# Altium integrated library Ref_altium lib_R0.IntLib: 381 symbols (part 1 of 4)
Pins are listed as number, name and electrical type; pins without a type are passive.

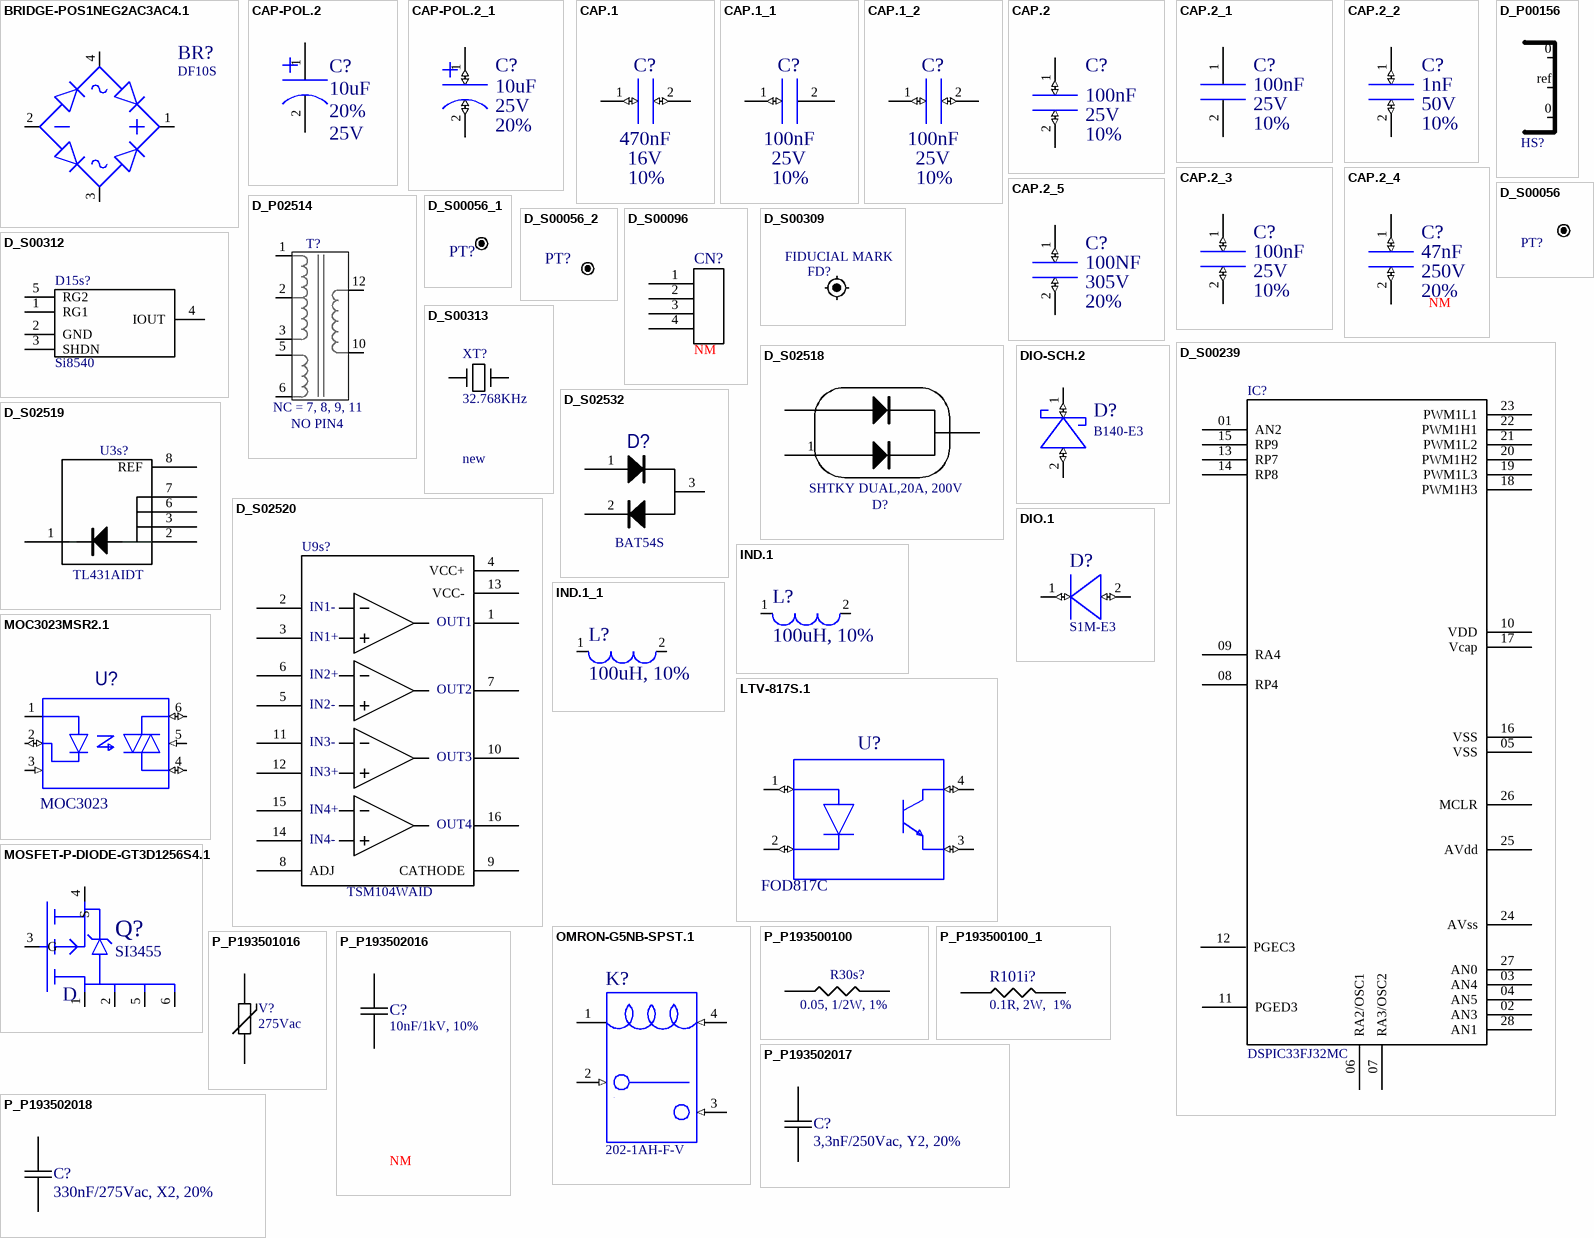
[diagram p0: symbols BRIDGE-POS1NEG2AC3AC4.1 to P_P193502018]

## BRIDGE-POS1NEG2AC3AC4.1
designator BR?, comment DEV  (value not drawn)
DF10S; MANUPARTNUM: DF10S*; LEVEL: STD; PKG_TYPE: BRIDG4_DINC_DFSQ; DXDB_LIBNAME: DIODES; ECAD#: 200-00007-00; STD_DESC: DIODE BR RCTF 1A 1000V 150C DFS; TEMP: -55C TO 150C; IF_IZ: 1A; POWER_RATING: 2.75W; VOLTAGE: 1KV; DEV_PKG: DF-S; CAM_PREFERRED: 2; EDC_P/N: W10331276; DES: BR1; DEVICE: DEV; PACKAGE: PACK; DATE: 03-May-10; SUPPLIER#2_NAME: FAIRCHILD SEMICOND; SUPPLIER#1_NAME: DIODES; STATUS: PERLIM; Value: DF10S; SUPPLIER#2_P/N: DF10S
footprint BRIDG4_DINC_DFSQ
footprint D-71_O_WHP
pins: 1 POS (io), 2 NEG (io), 3 AC2 (io), 4 AC1 (io)

## CAP-POL.2
designator C?, comment value 10uF  TOLERANCE: 20%  VOLTAGE: 25V  (hidden comment: DEV)
10uF; MANUPARTNUM: EEAGA1H100; LEVEL: STD; PKG_TYPE: CAPAETR2_250P630X700; CAM_PREFERRED: 2; DXDB_LIBNAME: CAPACITORS; ECAD#: 360-00042-00; AML_REVISION: AD; STD_DESC: CAP ELAL 10UF 20% 50V 105C RA2.5X7X7 ROHS; TEMP: -40C TO 105C; DEV_PKG: RA2.5x7x7; EDC_P/N: W10173999; DES: C58; DEVICE: DEV; DATE: 24-Jan-08; SUPPLIER#2_P/N: B41022A6106M000; SUPPLIER#2_NAME: EPCOS; SUPPLIER#1_NAME: PANASONIC; STATUS: ACTIVE
footprint CAPAETR2_250P630X700
footprint ELE_CAP_WHP
footprint CAP-ELETRO-B_R_V0
footprint CAP-ELETRO-B_R_V1
pins: 1 POS, 2 NEG

## CAP-POL.2_1
designator C?, comment value 10uF  TOLERANCE: 20%  VOLTAGE: 25V  (hidden comment: DEV)
10uF; MANUPARTNUM: EEAGA1H100; LEVEL: STD; PKG_TYPE: CAPAETR2_250P630X700; CAM_PREFERRED: 2; DXDB_LIBNAME: CAPACITORS; ECAD#: 360-00042-00; AML_REVISION: AD; STD_DESC: CAP ELAL 10UF 20% 50V 105C RA2.5X7X7 ROHS; TEMP: -40C TO 105C; DEV_PKG: RA2.5x7x7; EDC_P/N: W10173999; DES: C60; DEVICE: DEV; DATE: 24-Jan-08; SUPPLIER#2_P/N: B41022A6106M000; SUPPLIER#2_NAME: EPCOS; SUPPLIER#1_NAME: PANASONIC; STATUS: ACTIVE
footprint CAPAETR2_250P630X700
footprint ELE_CAP_WHP
footprint CAP-ELETRO-B_R_V0
footprint CAP-ELETRO-B_R_V1
pins: 1 POS (io), 2 NEG (io)

## CAP.1
designator C?, comment value 470nF  VOLTAGE: 16V  TOLERANCE: 10%  (hidden comment: DEV)
470nF; MANUPARTNUM: 0805YC474KAT2A; LEVEL: STD; PKG_TYPE: CAPC2012_IS0805N; DXDB_LIBNAME: CAPACITORS; ECAD#: 330-00003-00; STD_DESC: CAP CER  .47UF  16V 10% X7R  SM0805; TEMP: -55C TO 125C; DIELECT: X7R; DEV_PKG: SM0805; CAM_PREFERRED: 2; EDC_P/N: W10113748; DES: C62; DEVICE: DEV; DATE: 11-Dec-06; SUPPLIER#2_P/N: C0805C474K4RAC; SUPPLIER#2_NAME: KEMET ELEK; SUPPLIER#1_NAME: AVX; STATUS: ACTIVE
footprint CAPC2012_IS0805N
footprint 0805_R_V4
footprint 0805_O_V0
pins: 1 N1 (io), 2 N2 (io)

## CAP.1_1
designator C?, comment value 100nF  VOLTAGE: 25V  TOLERANCE: 10%  (hidden comment: DEV)
100nF; MANUPARTNUM: 06033C104KAT2A; LEVEL: STD; PKG_TYPE: CAPC1608_IS0603N; DXDB_LIBNAME: CAPACITORS; ECAD#: 330-00002-00; STD_DESC: CAP CER .1UF 25V 10% X7R SM0603; TEMP: -55C TO 125C; DIELECT: X7R; DEV_PKG: SM0603; CAM_PREFERRED: 1; EDC_P/N: W10141926; DES: C33; DEVICE: DEV; DATE: 25-Jun-07; SUPPLIER#2_P/N: C0603C104K3RAC; SUPPLIER#2_NAME: KEMET ELEK; SUPPLIER#1_NAME: AVX; STATUS: ACTIVE
footprint CAPC1608_IS0603N
footprint 0603_R_V4
footprint 0603_O_V1
pins: 1 N1 (io), 2 N2

## CAP.1_2
designator C?, comment value 100nF  VOLTAGE: 25V  TOLERANCE: 10%  (hidden comment: DEV)
100nF; MANUPARTNUM: 06033C104KAT2A; LEVEL: STD; PKG_TYPE: CAPC1608_IS0603N; DXDB_LIBNAME: CAPACITORS; ECAD#: 330-00002-00; STD_DESC: CAP CER .1UF 25V 10% X7R SM0603; TEMP: -55C TO 125C; DIELECT: X7R; DEV_PKG: SM0603; CAM_PREFERRED: 1; EDC_P/N: W10141926; DES: C25; DEVICE: DEV; DATE: 25-Jun-07; SUPPLIER#2_P/N: C0603C104K3RAC; SUPPLIER#2_NAME: KEMET ELEK; SUPPLIER#1_NAME: AVX; STATUS: ACTIVE
footprint CAPC1608_IS0603N
footprint 0603_R_V4
footprint 0603_O_V1
pins: 1 N1 (io), 2 N2 (io)

## CAP.2
designator C?, comment value 100nF  TOLERANCE: 10%  VOLTAGE: 25V  (hidden comment: DEV)
100nF; MANUPARTNUM: 06033C104KAT2A; LEVEL: STD; PKG_TYPE: CAPC1608_IS0603N; DXDB_LIBNAME: CAPACITORS; ECAD#: 330-00002-00; STD_DESC: CAP CER .1UF 25V 10% X7R SM0603; TEMP: -55C TO 125C; DIELECT: X7R; DEV_PKG: SM0603; CAM_PREFERRED: 1; EDC_P/N: W10141926; DES: C27; DEVICE: DEV; DATE: 25-Jun-07; SUPPLIER#2_P/N: C0603C104K3RAC; SUPPLIER#2_NAME: KEMET ELEK; SUPPLIER#1_NAME: AVX; STATUS: ACTIVE
footprint CAPC1608_IS0603N
footprint 0603_R_V4
footprint 0603_O_V1
pins: 1 N1 (io), 2 N2 (io)

## CAP.2_1
designator C?, comment value 100nF  TOLERANCE: 10%  VOLTAGE: 25V  (hidden comment: DEV)
100nF; MANUPARTNUM: 06033C104KAT2A; LEVEL: STD; PKG_TYPE: CAPC1608_IS0603N; DXDB_LIBNAME: CAPACITORS; ECAD#: 330-00002-00; STD_DESC: CAP CER .1UF 25V 10% X7R SM0603; TEMP: -55C TO 125C; DIELECT: X7R; DEV_PKG: SM0603; CAM_PREFERRED: 1; EDC_P/N: W10141926; DES: C24; DEVICE: DEV; DATE: 25-Jun-07; SUPPLIER#2_P/N: C0603C104K3RAC; SUPPLIER#2_NAME: KEMET ELEK; SUPPLIER#1_NAME: AVX; STATUS: ACTIVE
footprint CAPC1608_IS0603N
footprint 0603_R_V4
footprint 0603_O_V1
pins: 1 N1, 2 N2

## CAP.2_2
designator C?, comment value 1nF  TOLERANCE: 10%  VOLTAGE: 50V  (hidden comment: DEV)
1nF; MANUPARTNUM: 06035C102KAT2A; LEVEL: STD; PKG_TYPE: CAPC1608_IS0603N; DXDB_LIBNAME: CAPACITORS; ECAD#: 330-00002-00; STD_DESC: CAP CER  .001UF  50V 10% X7R SM0603; TEMP: -55C TO 125C; DIELECT: X7R; DEV_PKG: SM0603; CAM_PREFERRED: 1; EDC_P/N: W10113686; DES: C66; DEVICE: DEV; DATE: 28-Sep-06; SUPPLIER#2_P/N: GRM188R71H102KA01D; SUPPLIER#2_NAME: MURATA; SUPPLIER#1_NAME: AVX; STATUS: ACTIVE
footprint CAPC1608_IS0603N
footprint 0603_R_V4
footprint 0603_O_V1
footprint 0603_R_V3
pins: 1 N1 (io), 2 N2 (io)

## CAP.2_3
designator C?, comment value 100nF  TOLERANCE: 10%  VOLTAGE: 25V  (hidden comment: DEV)
100nF; MANUPARTNUM: 06033C104KAT2A; LEVEL: STD; PKG_TYPE: CAPC1608_IS0603N; DXDB_LIBNAME: CAPACITORS; ECAD#: 330-00002-00; STD_DESC: CAP CER .1UF 25V 10% X7R SM0603; TEMP: -55C TO 125C; DIELECT: X7R; DEV_PKG: SM0603; CAM_PREFERRED: 1; EDC_P/N: W10141926; DES: C54; DEVICE: DEV; DATE: 25-Jun-07; SUPPLIER#2_P/N: C0603C104K3RAC; SUPPLIER#2_NAME: KEMET ELEK; SUPPLIER#1_NAME: AVX; STATUS: ACTIVE
footprint CAPC1608_IS0603N
footprint 0603_R_V4
footprint 0603_R_V3
pins: 1 N1 (io), 2 N2 (io)

## CAP.2_4
designator C?, comment value 47nF  TOLERANCE: 20%  VOLTAGE: 250V  OBS: NM  (hidden comment: DEV)
47nF; MANUPARTNUM: BN074G0473M; LEVEL: STD; PKG_TYPE: CAPT2_750P1030X430B_PD60; CAM_PREFERRED: 3; DXDB_LIBNAME: CAPACITORS; ECAD#: 350-00016-00; STD_DESC: CAP FILM .047UF 250V 20%  PTH; DIELECT: POLYE; DEV_PKG: RA7.5x10x4x9; EDC_P/N: W10155047; DES: C65; DEVICE: DEV; DATE: 23-Aug-07; SUPPLIER#2_P/N: MKT1818-347255; SUPPLIER#2_NAME: VISHAY ROEDERSTEIN; SUPPLIER#1_NAME: AVX; STATUS: ACTIVE
footprint CAPT2_750P1030X430B_PD60
footprint CAP_POL_V0_WHP
pins: 1 N1 (io), 2 N2 (io)

## CAP.2_5
designator C?, comment value 100NF  TOLERANCE: 20%  VOLTAGE: 305V  (hidden comment: DEV)
100NF; MANUPARTNUM: B32921C3104M000; LEVEL: STD; PKG_TYPE: CAPT2_1000P1300X600B_PD60; DXDB_LIBNAME: CAPACITORS; ECAD#: 350-00027-00; STD_DESC: CAP FILM 0.1UF 305VAC 20% X2 RA10; TEMP: -40C TO 110C; DIELECT: POLYP; DEV_PKG: RA10X13X6X12; CAM_PREFERRED: 1; EDC_P/N: W10331227; DES: C64; DEVICE: DEV; DATE: 12-MAY-10; SUPPLIER#2_P/N: BFC233920104; SUPPLIER#2_NAME: VISHAY; SUPPLIER#1_NAME: EPCOS; STATUS: PRELIM
footprint CAPT2_1000P1300X600B_PD60
footprint CAP_POL_V1_WHP
pins: 1 N1 (io), 2 N2 (io)

## D_P00156
designator HS?
HEAT SINK - TO; OBS: HEAT SINK
footprint HEAT_SINK_V0 (Footprint not found)
pins: 0, 0, ref

## D_P02514
designator T?  (value not drawn)
DES: T1
footprint TRF_SMSPS_WHP (R36, R37, R38)
pins: 1, 2, 3, 5, 6, 10, 12
text: NC = 7, 8, 9, 11; NO PIN4

## D_S00056
designator PT?  (value not drawn)
Text Field1: PTICT; Text Field2: EXO; Text Field3: PT
footprint PTICT_V0
pins: 1

## D_S00056_1
designator PT?, comment D_S00056  (value not drawn)
PTICT: *; EXO: *; PT: *
footprint PTICT_V0
pins: 1 (io)

## D_S00056_2
designator PT?, comment D_S00056  (value not drawn)
Text Field1: PTICT; Text Field2: EXO; Text Field3: PT
footprint PTICT_V0
pins: 1

## D_S00096
designator CN?  OBS: NM  (hidden comment: D_S00096)
D_S00095; Text Field1: SH CONNECTOR, SMT TYPE; Text Field2: SM04B-SRSS-TB@PKG T&R 13" 1500PÇS; Text Field3: JST; SM04B-SRSS-TB: *
footprint SM04B_R_V0
footprint B04B-XASS-1-A-T
pins: 1, 2, 3, 4

## D_S00239
designator IC?  value DSPIC33FJ32MC  (hidden comment: D_S00239)
DSPIC33FJ32MC; Text Field1: DSP MICROCHIP FLASH - VCC3 X12; EECON CODE: new
footprint QFN-28_V3
pins: 01 AN2, 02 AN3, 03 AN4, 04 AN5, 05 VSS, 06 RA2/OSC1, 07 RA3/OSC2, 08 RP4, 09 RA4, 10 VDD, 11 PGED3, 12 PGEC3, 13 RP7, 14 RP8, 15 RP9, 16 VSS, 17 Vcap, 18 PWM1H3, 19 PWM1L3, 20 PWM1H2, 21 PWM1L2, 22 PWM1H1, 23 PWM1L1, 24 AVss, 25 AVdd, 26 MCLR, 27 AN0, 28 AN1

## D_S00309
designator FD?, comment FIDUCIAL MARK
EECON CODE: none; Value: FIDUCIAL MARK
footprint FDC_V2
footprint FDC_V0
footprint FDC_V1
pins: 1

## D_S00312
designator D15s?  value Si8540  (hidden comment: D_S00312)
Si8540; COMPONENT: HIGH-SIDE CURRENT SENSE AMPLIFIER; Text Field2: Silicon Labs; EECON CODE: new; DES: D15s; Text Field1: Si8540
footprint SOT-23-5_R_V1
pins: 1 RG1, 2 GND, 3 SHDN, 4 IOUT, 5 RG2

## D_S00313
designator XT?, comment EECON CODE: new  (hidden comment: 32.768KHz)
Text Field2: KIOCERA; COMPONENT: 32.768KHz Crystal; Text Field 1: ST3215SB32768H5HPWAA; Value: 32.768KHz
footprint XTAL_DsPIC
pins: 1, 2

## D_S02518
designator D?  value SHTKY DUAL,20A, 200V  (hidden comment: D_S02518)
SHTKY DUAL,20A, 200V; DES: D7
pins: 1, 2, 3

## D_S02519
designator U3s?  value TL431AIDT  (hidden comment: D_S02519)
TL431AIDT; DES: U3s
footprint SO-8_R_WHP
pins: 1, 1, 2, 2, 3, 6, 7, 8 REF

## D_S02520
designator U9s?  (value not drawn)
pins: 1, 1 2, 2, 3, 3 2, 4 VCC+, 5, 5 2, 6, 6 2, 7, 7 2, 8 ADJ, 9 CATHODE, 10, 10 2, 11, 11 2, 12, 12 2, 13 VCC-, 14, 14 2, 15, 15 2, 16, 16 2, IN1-
text: OUT1; IN1+; IN2+; OUT2; IN2-; IN3-; OUT3; IN3+; IN4+; OUT4; IN4-; TSM104WAID

## D_S02532
designator D?  value BAT54S  (hidden comment: D_S02532)
BAT54S; DES: D20
footprint SOT-23_R_V2_WHP
pins: 1, 2, 3

## DIO-SCH.2
designator D?, comment value B140-E3  (hidden comment: DEV)
B140-E3; MANUPARTNUM: MBRA140T3G; LEVEL: STD; PKG_TYPE: DIOM4326_SMA_D0214ACN; DXDB_LIBNAME: DIODES; ECAD#: 200-00013-00; STD_DESC: DIODE SHTKY SW 1A 40V 150C SMA; TEMP: -55C TO 125C; IF_IZ: 1A; POWER_RATING: 1W; VOLTAGE: 40V; DEV_PKG: SMA; CAM_PREFERRED: 2; EDC_P/N: W10173965; DES: D15; DEVICE: DEV; PACKAGE: PACK; DATE: 03-Jan-08; SUPPLIER#2_P/N: B140-E3/5AT; SUPPLIER#2_NAME: VISHAY; SUPPLIER#1_NAME: ON SEMICOND; STATUS: ACTIVE
footprint DIOM4326_SMA_D0214ACN
footprint SMA_R_V3
pins: 1 C (io), 2 A (io)

## DIO.1
designator D?, comment value S1M-E3  (hidden comment: DEV)
S1M-E3; MANUPARTNUM: MRA4007T3G; LEVEL: STD; PKG_TYPE: DIOM4326_SMA_D0214ACN; TEMP: -55C TO 150C; POWER_RATING: 1.7W; CAM_PREFERRED: 1; DXDB_LIBNAME: DIODES; ECAD#: 200-00005-00; AML_REVISION: T; STD_DESC: DIODE RCTF  1A 1000V SMA ROHS; IF_IZ: 1A; VOLTAGE: 1KV; DEV_PKG: SMA; EDC_P/N: W10120708; DES: D5; PACKAGE: PACK; DEVICE: DEV; DATE: 13-Dec-06; SUPPLIER#2_P/N: S1M-E3; SUPPLIER#2_NAME: VISHAY; SUPPLIER#1_NAME: ON SEMI; STATUS: ACTIVE
footprint DIOM4326_SMA_D0214ACN
footprint SMA_R_V3
pins: 1 C (io), 2 A (io)

## IND.1
designator L?, comment value 100uH, 10%  (hidden comment: DEV)
100uH, 10%; MANUPARTNUM: MLF2012C101K; LEVEL: STD; PKG_TYPE: INDC2012_IS0805N; CAM_PREFERRED: 3; DXDB_LIBNAME: INDUCTORS; ECAD#: 380-00012-00; AML_REVISION: V; STD_DESC: INDUCT RFCHK 100 UH 10% 3.1 OHM 2MA SM0805 ROHS; RDC_OHMS: 3.1; AMPS: 2mA; DEV_PKG: SM0805; EDC_P/N: W10141876; DES: L10; PACKAGE: PACK; DEVICE: DEV; DATE: 15-May-07; SUPPLIER#1_NAME: TDK; STATUS: ACTIVE; TOLERANCE: 10%
footprint INDC2012_IS0805N
footprint 0805_R_V4
pins: 1 N1, 2 N2 (io)

## IND.1_1
designator L?, comment value 100uH, 10%  (hidden comment: DEV)
100uH, 10%; MANUPARTNUM: MLF2012C101K; LEVEL: STD; PKG_TYPE: INDC2012_IS0805N; CAM_PREFERRED: 3; DXDB_LIBNAME: INDUCTORS; ECAD#: 380-00012-00; AML_REVISION: V; STD_DESC: INDUCT RFCHK 100 UH 10% 3.1 OHM 2MA SM0805 ROHS; RDC_OHMS: 3.1; AMPS: 2mA; DEV_PKG: SM0805; EDC_P/N: W10141876; DES: L1; PACKAGE: PACK; DEVICE: DEV; DATE: 15-May-07; SUPPLIER#1_NAME: TDK; STATUS: ACTIVE; TOLERANCE: 10%
footprint INDC2012_IS0805N
footprint 0805_R_V4
pins: 1 N1 (io), 2 N2 (io)

## LTV-817S.1
designator U?, comment value FOD817C  (hidden comment: DEV)
FOD817C; MANUPARTNUM: FOD 817CSD; LEVEL: STD; PKG_TYPE: SOP254P1016_4_D460Q; DXDB_LIBNAME: OPTO-ISOLATORS; ECAD#: 540-00004-00; STD_DESC: IC OPTO TRANSISTOR 200 TO 400% CTR 5.0MA; TEMP: -55C TO 110C; VCE_CTR: 5V; IC_CTR: 5mA; CTR: 200% TO 400%; DEV_PKG: SDIP4; CAM_PREFERRED: 2; EDC_P/N: W10346090; DES: U11; DEVICE: DEV; PACKAGE: PACK; DATE: 03-Aug-10; SUPPLIER#2_P/N: TLP-781 (BLL-TP6); SUPPLIER#2_NAME: TOSHIBA; SUPPLIER#1_NAME: FAIRCHILD SEMICOND; STATUS: PRELIM
footprint SOP254P1016_4_D460Q
footprint OPTO_R_V1_WHP
pins: 1 ANODE (io), 2 CATHODE (io), 3 EMIT (io), 4 COLL (io)

## MOC3023MSR2.1
designator U?, comment value MOC3023  (hidden comment: DEV)
MOC3023; MANUPARTNUM: MOC3023SR2M; LEVEL: STD; PKG_TYPE: SOP254P917_6_D851Q; CAM_PREFERRED: 1; DXDB_LIBNAME: OPTO-ISOLATORS; ECAD#: 540-00005-00; STD_DESC: IC OPTO TRIAC DC/IN 400V/5MA SDIP6; VCE_CTR: 400V; IC_CTR: 5mA; DEV_PKG: SDIP6; EDC_P/N: W10120697; DES: U19; DEVICE: DEV; PACKAGE: PACK; DATE: 17-Jan-07; SUPPLIER#1_NAME: FAIRCHILD SEMICOND; STATUS: ACTIVE
footprint SOP254P917_6_D851Q
footprint SMD-6_R_WHP
pins: 1 ANODE, 2 CATHODE (io), 3 NC1 (in), 4 MAINTERM1 (io), 5 NC2 (in), 6 MAINTERM2 (io)

## MOSFET-P-DIODE-GT3D1256S4.1
designator Q?, comment value SI3455  (hidden comment: DEV)
SI3455; MANUPARTNUM: NTGS3455T1G; LEVEL: STD; PKG_TYPE: SOT95P280_6_D290N; TEMP: -55C TO 150C; CAM_PREFERRED: 2; DXDB_LIBNAME: TRANSISTORS; ECAD#: 220-00038-00; AML_REVISION: Y; STD_DESC: TRANSISTOR PFET 4A 30V 2W TSOP6; POWER_RATING: 2W; VCE: 30V; IC_AMPS: 3.5A; DEV_PKG: TSOP6; EDC_P/N: W10165218; DES: Q19; DEVICE: DEV; DATE: 30-Nov-07; SUPPLIER#1_NAME: ON SEMICOND; STATUS: ACTIVE
footprint SOT95P280_6_D290N
footprint SOT-23-6_R_WHP
pins: 1 D1 (io), 2 D2 (io), 3 G (io), 4 S (io), 5 D3 (io), 6 D4 (io)
text: D

## OMRON-G5NB-SPST.1
designator K?, comment value 202-1AH-F-V  (hidden comment: DEV)
202-1AH-F-V; MANUPARTNUM: G5NB-1A4 12VDC; LEVEL: STD; PKG_TYPE: RLYT4_OMRON_G5NB; CAM_PREFERRED: 2; DXDB_LIBNAME: RELAYS; ECAD#: 400-00002-00; STD_DESC: RELAY ELECT MAG 3A SPST-NO 12V RADIAL; TEMP: -40C TO 85C; FORM_CONTACTS: 1P/1T, 1A; I_CONTACTS: 3A; COIL_RES: 720; VOLTAGE: 12V; DEV_PKG: RADIAL; EDC_P/N: W10304000; DES: K1; PACKAGE: PACK; DEVICE: DEV; DATE: 03-Nov-09; SUPPLIER#1_NAME: OMRON; STATUS: PRELIM
footprint RLYT4_OMRON_G5NB
footprint RELAY_202_1AC-F-S_WHP
footprint RELAY_202_1AC-F-S_WHP_V1
pins: 1 C1, 2 COM (in), 3 NO (in), 4 C2 (in)

## P_P193500100
designator R30s?  value 0.05, 1/2W, 1%  (hidden comment: P_P193500100)
0.05, 1/2W, 1%; COMPONENT: CURR sense resistor 0.05R 1% 75ppm 1/2W; Text Field2: WSLP0805R0500FEA; Text Field3: VISHAY; EECON CODE: new; DES: R30s
footprint 0805_R_V0
footprint 0805_SH_R_V1
pins: 1, 2

## P_P193500100_1
designator R101i?, comment value 0.1R, 2W,  1%  (hidden comment: P_P193500100)
0.1R, 2W,  1%; Text Field2: 2306 327 01007 @ PAC02 TAPE IN BOX 500PÇS; Text Field3: PHOENIX DO BRASIL; COMPONENT: CEMENTED WIREWOUND RES. PACO2, 0.1R, 2W,  1%; EECON CODE: 193500100
footprint PAC02_V0
footprint AC03_V0
footprint LVR-3_V0
pins: 1, 2

## P_P193501016
designator V?  value 275Vac  (hidden comment: P_P193501016)
275Vac; COMPONENT: VARISTOR, Q14K275; Text Field1: B72214Q0271K101; Text Field2: EPCOS; EECON CODE: 0193501016; DES: V1
footprint VAR_S20K275_V0
pins: 1, 2

## P_P193502016
designator C?  value 10nF/1kV, 10%  OBS: NM  (hidden comment: P_P193502016)
10nF/1kV, 10%; Text Field1: 2222 336 20103 @ Loose in Box 1000PÇS % 2222 336 26103 @ Loose in Box 1000PÇS; Text Field2: BC COMPONENTS % BC COMPONENTS; Text Field3: 2222 336 23103 @ REEL 1100PÇS; Text Field4: BC COMPONENTS; Text Field5: B81130-C1003-M735; Text Field6: EPCOS; COMPONENT: POLYPROPYLENE CAP., 10nF/275AC,  X2 TYPE; EECON CODE: 193502016
footprint CAP-EMC-TAM-A_V0
footprint 2010_R_V0
pins: 1, 2

## P_P193502017
designator C?  value 3,3nF/250Vac, Y2, 20%  (hidden comment: P_P193502017)
3,3nF/250Vac, Y2, 20%; Text Field1: POLYPROPYLENE CAP., 4.7nF/250AC, Y2 TYPE; Text Field2: 2222 336 60472 @ Loose in Box 750PÇS % 2222 336 66472 @ Loose in Box 750PÇS; Text Field3: BC COMPONENTS; Text Field4: B81122-C1472-M735; Text Field5: EPCOS; Text Field6: 2222 336 63472 @ REEL 900PÇS; DES: C003; Text Field7: BC COMPONENTS
footprint CAP-EMC-TAM-B_V0
pins: 1, 2

## P_P193502018
designator C?  value 330nF/275Vac, X2, 20%  (hidden comment: P_P193502018)
330nF/275Vac, X2, 20%; Text Field1: POLYPROPYLENE CAP., 330nF/275AC,  X2 TYPE; Text Field2: B81130-C1334-M735; Text Field3: EPCOS; Text Field4: 2222 336 20334 @ LOOSE IN BOX 200PÇS % 2222 336 26334 @ LOOSE IN BOX 500PÇS; Text Field5: BC COMPONENTS % BC COMPONENTS; Text Field6: 2222 336 23334 @ REEL 450 PÇS; Text Field7: BC COMPONENTS; DES: C001
footprint CAP-EMC-TAM-D_V0
footprint CAPPOL4_V0
pins: 1, 2

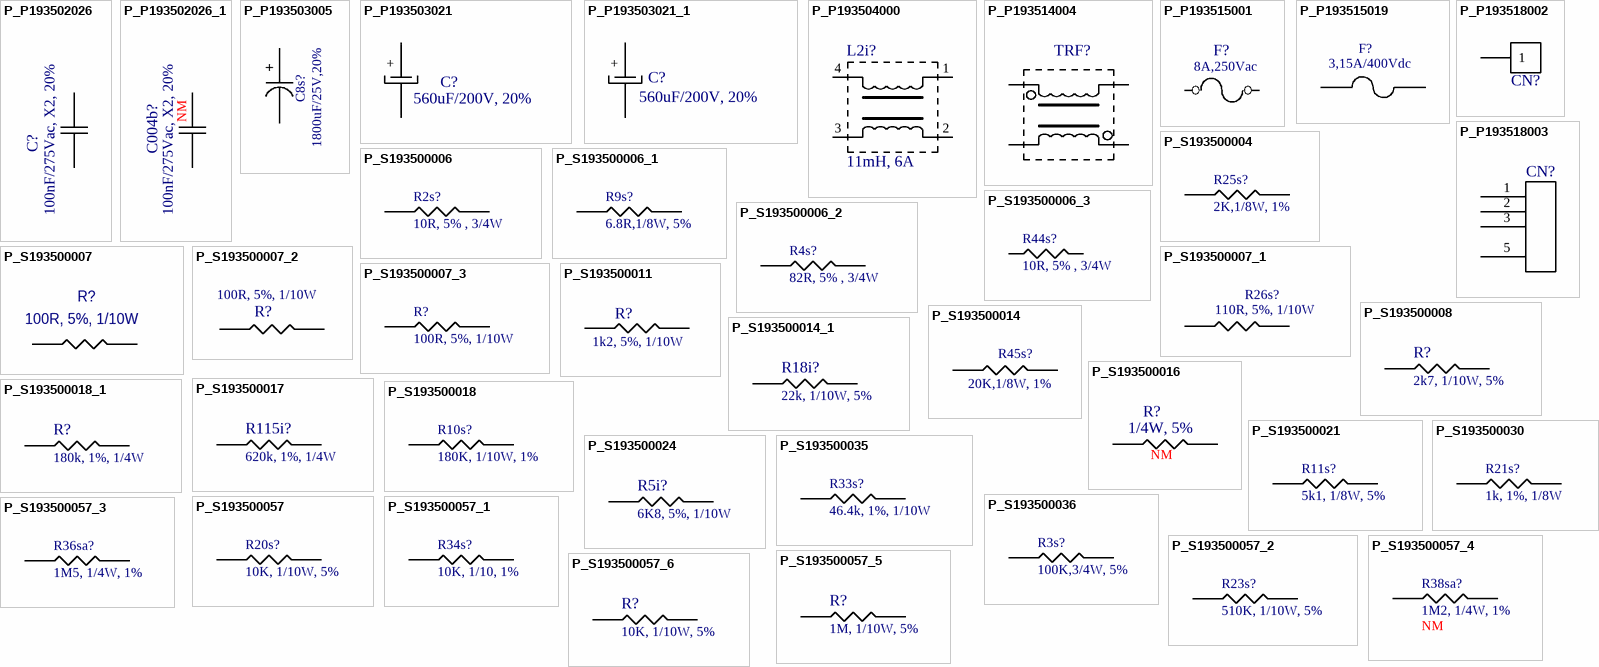
[diagram p1: symbols P_P193502026 to P_S193500057_6]

## P_P193502026
designator C?  value 100nF/275Vac, X2, 20%  (hidden comment: P_P193502026)
100nF/275Vac, X2, 20%; Text Field1: POLYPROPYLENE CAP., 100nF/275AC,  X2 TYPE; Text Field2: 2222 336 20104 @ LOOSE IN BOX 1000PÇS; Text Field3: BC COMPONENTS; Text Field4: 2222 336 26104 @ LOOSE IN BOX 500PÇS; Text Field6: 2222 336 23104 @ REEL 800 PÇS; DES: C004; Text Field5: BC COMPONENTS; Text Field7: BC COMPONENTS
footprint CAP-EMC-TAM-C_V0
pins: 1, 2

## P_P193502026_1
designator C004b?, comment value 100nF/275Vac, X2, 20%  OBS: NM  (hidden comment: P_P193502026)
100nF/275Vac, X2, 20%; Text Field1: POLYPROPYLENE CAP., 100nF/275AC,  X2 TYPE; Text Field2: 2222 336 20104 @ LOOSE IN BOX 1000PÇS; Text Field3: BC COMPONENTS; Text Field4: 2222 336 26104 @ LOOSE IN BOX 500PÇS; Text Field6: 2222 336 23104 @ REEL 800 PÇS; DES: C004b; Text Field5: BC COMPONENTS; Text Field7: BC COMPONENTS
footprint CAP-EMC-TAM-D_V1
pins: 1, 2

## P_P193503005
designator C8s?  value 1800uF/25V,20%  (hidden comment: P_P193503005)
1800uF/25V,20%; COMPONENT: ELET. CAP., 1800uF/25V; Text Field1: UHD1E182MHD6; Text Field2: NICHICON; EECON CODE: new; DES: C8s
footprint CAP-ELETR-TAM-A_V0
footprint CAP-ELETR-TAM-A_V1
footprint CAP-ELETR-16X27_V0
footprint CAP-ELETR-16X27_WHP
pins: 1, 2
text: +

## P_P193503021
designator C?  value 560uF/200V, 20%  (hidden comment: P_P193503021)
560uF/200V, 20%; Text Field1: ELEC CAP 390uF/200V EE 3000H 105C; Text Field2: EETEE2D391H @; Text Field3: PANASONIC; Text Field4: EETEE2D391HJ; DES: C102; Text Field5: PANASONIC
footprint CAP-ELETR-TAM-B_22_WHP
footprint CAP-ELETR-TAM-B_25_WHP
pins: 1, 2
text: +

## P_P193503021_1
designator C?, comment value 560uF/200V, 20%  (hidden comment: P_P193503021)
560uF/200V, 20%; Text Field1: ELEC CAP 390uF/200V EE 3000H 105C; Text Field2: EETEE2D391H @; Text Field3: PANASONIC; Text Field4: EETEE2D391HJ; DES: C101; Text Field5: PANASONIC
footprint CAP-ELETR-TAM-B_22_WHP
footprint CAP-ELETR-TAM-B_30_WHP
footprint CAP-ELETR-TAM-B_25_WHP
pins: 1, 2
text: +

## P_P193504000
designator L2i?  value 11mH, 6A  (hidden comment: P_P193504000)
11mH, 6A; Text Field1: CHOKE INDUCTOR, 2A/5.6mH,+/-30%, UL,VDE APROVED; Text Field2: B82723-A2202-N1; Text Field3: EPCOS; DES: L2i
footprint CHOKE-TAM-A_V0
footprint CHOKE-TAM-B_V0
footprint CHOKE-TAM-C_V01
footprint CHOKE-TAM-C_V02
pins: 1, 2, 3, 4

## P_P193514004
designator TRF?  (value not drawn)
820uH/100uH TDK; Text Field1: SRW10ES-U01V002; COMPONENT: SMPS TRANSFORMER 820uH/100uH; EECON CODE: 0193514004; Text Field2: TDK; Value: 820uH/100uH TDK
footprint TRAFO_TDK
footprint TRAFO TDK
pins: 1, 4, 5, 8

## P_P193515001
designator F?  value 8A,250Vac  (hidden comment: P_P193515001)
8A,250Vac; Text Field1: TIME-LAG FUSE, MXT250 MODEL, 4A/250V, VDE/UL; Text Field2: 0034.6921.BF; Text Field3: SCHURTER; DES: F001; 31370027-5: *; FUSIVEL TIME-LAG 4A/250V (MXT250): *; FUSEBEL: *; DIL: *; F: *
footprint FUSE_SPT_R_V2 (Correção Haier 331)
pins: 1, 2

## P_P193515019
designator F?, comment value 3,15A/400Vdc  (hidden comment: Comment)
3,15A/400Vdc; Text Field2: SCHURTER; EECON CODE: 0193515019; COMPONENT: FUSE, SP5x20 PIGTAIL MODEL, 8A/250V FAST ACT; Text Field1: 0001.1013.TR @ T&R 1000 pçs
footprint FUSE_R_V0
footprint FUSE_O_V0
footprint FUSE_SP_5X20_PGT_V0
footprint FUSE_SP_5x20_PGT_V1
footprint FUSE_SP_5x20_PGT_V2
pins: 1, 2

## P_P193518002
designator CN?  (value not drawn)
Text Field1: HEADER CONNECTOR, SLV MODEL, 1 WAY; Text Field2: RTB-1.5-1F @ BOX 1000PÇS; Text Field3: JST; DES: CN03
footprint CON-SLV_V0
footprint CON-BH1P-VH-1_V0
pins: 1

## P_P193518003
designator CN?  (value not drawn)
Text Field1: HEADER CONNECTOR, VH MODEL, 5 WAYS W/4 WAY; Text Field2: B4PS-VH @ BOX 500PÇS; Text Field3: JST; Text Field4: B4P5-VH @ BOX 500PÇS; DES: CN07; Text Field5: JST
footprint CON-B4P5-VH_V0
pins: 1, 2, 3, 5

## P_S193500004
designator R25s?  (value not drawn)
2K2R, 1/8W, 5%; COMPONENT: RES., 0805 SIZE, 2K2R, 1/8W, 5%; Text Field1: 2322 730 81222L @ REEL 20000PÇS; Text Field2: PHYCOMP; Text Field3: 2322 730 71222L @ REEL 10000PÇS; Text Field5: 2322 730 61222L @ REEL 5000PÇS; EECON CODE: 0193500004; DES: R25s; Text Field4: PHYCOMP; Text Field6: PHYCOMP; Value: 2K2R, 1/8W, 5%
footprint 0805_R_V0
footprint 0805_O_V0
footprint 0805_R_V1
footprint 0805_O_V1
footprint 0805_R_V4
pins: 1, 2
text: 2K,1/8W, 1%

## P_S193500006
designator R2s?  value 10R, 5% , 3/4W  (hidden comment: P_S193500006)
10R, 5% , 3/4W; Text Field1: SR2010JK-0710RL; Text Field2: Yageo; EECON CODE: new; DES: R2s
footprint 2010_R_V1
footprint 2010_R_V0
footprint 2010_O_V1
pins: 1, 2

## P_S193500006_1
designator R9s?, comment P_S193500006  (value not drawn)
10R, 5% , 1/10 W; Text Field1: 2322 702 81109L @ REEL 20000PÇS; Text Field2: PHYCOMP; Text Field3: 2322 702 70109L @ REEL 10000PÇS; Text Field5: 2322 702 60109L @ REEL 5000PÇS; Text Field6: PHYCOMP/YAGEO; COMPONENT: RES., 0603 SIZE,10R, 5% , 1/10 W; EECON CODE: 0193500006; DES: R9s; Text Field4: PHYCOMP; Value: 10R, 5% , 1/10 W
footprint 0603_O_V0
footprint 0603_R_V0
footprint 0805_R_V4
footprint 0805_O_V1
pins: 1, 2
text: 6.8R,1/8W, 5%

## P_S193500006_2
designator R4s?, comment P_S193500006  (value not drawn)
10R, 5% , 1/10 W; Text Field1: 2322 702 81109L @ REEL 20000PÇS; Text Field2: PHYCOMP; Text Field3: 2322 702 70109L @ REEL 10000PÇS; Text Field5: 2322 702 60109L @ REEL 5000PÇS; Text Field6: PHYCOMP/YAGEO; COMPONENT: RES., 0603 SIZE,10R, 5% , 1/10 W; EECON CODE: 0193500006; DES: R4s; Text Field4: PHYCOMP; Value: 10R, 5% , 1/10 W
footprint 0603_O_V0
footprint 0603_R_V0
footprint 2010_O_VS0
footprint 1210_R_WHP
footprint 2010_O_VS0
footprint 2010_R_V1
footprint 2010_O_V1
pins: 1, 2
text: 82R, 5% , 3/4W

## P_S193500006_3
designator R44s?, comment P_S193500006  (value not drawn)
10R, 5% , 1/10 W; Text Field1: 2322 702 81109L @ REEL 20000PÇS; Text Field2: PHYCOMP; Text Field3: 2322 702 70109L @ REEL 10000PÇS; Text Field5: 2322 702 60109L @ REEL 5000PÇS; Text Field6: PHYCOMP/YAGEO; COMPONENT: RES., 0603 SIZE,10R, 5% , 1/10 W; EECON CODE: 0193500006; DES: R44s; Text Field4: PHYCOMP; Value: 10R, 5% , 1/10 W
footprint 0603_O_V0
footprint 0603_R_V0
footprint 2010_O_VS0
footprint 2010_R_V1
footprint 2010_O_V1
pins: 1, 2
text: 10R, 5% , 3/4W

## P_S193500007
designator R?  value 100R, 5%, 1/10W  (hidden comment: P_S193500007)
100R, 5%, 1/10W; COMPONENT: RES., 0603 SIZE, 100R, 5%, 1/10W; Text Field1: 2322 702 60101L @ REEL 7" 5000PÇS; Text Field2: PHYCOMP; Text Field3: 2322 702 70101L @ REEL 13" 10000PÇS; Text Field5: 2322 702 81101L@ REEL 13" 20000PÇS; EECON CODE: 0193500007; Text Field4: PHYCOMP; Text Field6: PHYCOMP
footprint 0603_R_V0
footprint 0603_O_V0
footprint 0603_R_V3
pins: 1, 2
1 alternate drawing of the same symbol

## P_S193500007_1
designator R26s?, comment value 110R, 5%, 1/10W  (hidden comment: P_S193500007)
110R, 5%, 1/10W; COMPONENT: RES., 0603 SIZE, 100R, 5%, 1/10W; Text Field1: 2322 702 60101L @ REEL 7" 5000PÇS; Text Field2: PHYCOMP; Text Field3: 2322 702 70101L @ REEL 13" 10000PÇS; Text Field5: 2322 702 81101L@ REEL 13" 20000PÇS; EECON CODE: 0193500007; DES: R26s; Text Field4: PHYCOMP; Text Field6: PHYCOMP
footprint 0603_R_V0
footprint 0603_O_V0
footprint 0805_R_V4
footprint 0805_O_V1
footprint 0603_O_V1
pins: 1, 2
1 alternate drawing of the same symbol

## P_S193500007_2
designator R?, comment value 100R, 5%, 1/10W  (hidden comment: P_S193500007)
100R, 5%, 1/10W; Text Field1: 2322 702 60101L @ REEL 7" 5000PÇS; Text Field2: PHYCOMP; Text Field3: 2322 702 70101L @ REEL 13" 10000PÇS; Text Field5: 2322 702 81101L@ REEL 13" 20000PÇS; COMPONENT: RES., 0603 SIZE, 100R, 5%, 1/10W; EECON CODE: 0193500007; Text Field4: PHYCOMP; Text Field6: PHYCOMP
footprint 0603_R_V0
footprint 0603_O_V0
footprint 0603_O_V1
pins: 1, 2

## P_S193500007_3
designator R?, comment value 100R, 5%, 1/10W  (hidden comment: P_S193500007)
100R, 5%, 1/10W; COMPONENT: RES., 0603 SIZE, 100R, 5%, 1/10W; Text Field1: 2322 702 60101L @ REEL 7" 5000PÇS; Text Field2: PHYCOMP; Text Field3: 2322 702 70101L @ REEL 13" 10000PÇS; Text Field5: 2322 702 81101L@ REEL 13" 20000PÇS; EECON CODE: 0193500007; Text Field4: PHYCOMP; Text Field6: PHYCOMP
footprint 0603_R_V0
footprint 0603_O_V0
footprint 0603_R_V3
footprint 0603_O_V1
pins: 1, 2
1 alternate drawing of the same symbol

## P_S193500008
designator R?  value 2k7, 1/10W, 5%  (hidden comment: P_S193500008)
2k7, 1/10W, 5%; Text Field1: 2322 702 81272L @ REEL 13" 20000PÇS; Text Field2: PHYCOMP; Text Field3: 2322 702 70272L @ REEL 10" 10000PÇS; Text Field5: 2322 702 60272L @ REEL 7" 5000PÇS; COMPONENT: RES., 0603 SIZE, 2K7R, 5%, 1/10W; EECON CODE: 0193500008; Text Field4: PHYCOMP; Text Field6: PHYCOMP
footprint 0603_R_V0
footprint 0603_O_V0
footprint 0603_R_VS0
footprint 0603_R_V3
pins: 1, 2

## P_S193500011
designator R?  value 1k2, 5%, 1/10W  (hidden comment: P_S193500011)
1k2, 5%, 1/10W; Text Field1: 2322 702 81122L@ REEL 13" 20000PÇS; Text Field2: PHYCOMP; Text Field3: 2322 702 70122L@ REEL 10" 10000PÇS; Text Field5: 2322 702 60122L@ REEL 7" 5000PÇS; COMPONENT: RES.,1k2R, 5%, 1/10W; EECON CODE: 0193500011; Text Field4: PHYCOMP; Text Field6: PHYCOMP
footprint 0603_R_V0
footprint 0603_O_V0
footprint 0603_O_V1
pins: 1, 2

## P_S193500014
designator R45s?  (value not drawn)
22k, 5%, 1/10W; COMPONENT: RES.,0603 SIZE, 22k , 5%, 1/10W; Text Field5: 2322 702 81223L@ PKG T&R 7" 20000PÇS; Text Field2: PHYCOMP; Text Field3: 2322 702 70223L@ PKG T&R 13" 10000PÇS; Text Field7: MCR03 EZH J 223 @ PKG T&R 7" 5000PÇS; Text Field8: ROHM; EECON CODE: 0193500014; Texet Field1: 2322 702 60223L@ PKG T&R 5000PÇS; Text Field9: MCR03 EZP J 223 @ PKG T&R 7" 5000PÇS; DES: R45s; Text Field6: PHYCOMP; Text Field4: PHYCOMP; Text Field10: ROHM; Value: 22k, 5%, 1/10W
footprint 0603_R_V0
footprint 0603_O_V0
footprint 0805_R_V4
footprint 0805_O_V1
pins: 1, 2
1 alternate drawing of the same symbol
text: 20K,1/8W, 1%

## P_S193500014_1
designator R18i?, comment value 22k, 1/10W, 5%  (hidden comment: P_S193500014)
22k, 1/10W, 5%; Text Field2: PHYCOMP; Text Field3: 2322 702 70223L@ PKG T&R 13" 10000PÇS; Text Field5: 2322 702 81223L@ PKG T&R 7" 20000PÇS; Text Field7: MCR03 EZH J 223 @ PKG T&R 7" 5000PÇS; COMPONENT: RES.,0603 SIZE, 22k , 5%, 1/10W; EECON CODE: 0193500014; Texet Field1: 2322 702 60223L@ PKG T&R 5000PÇS; Text Field8: ROHM; Text Field9: MCR03 EZP J 223 @ PKG T&R 7" 5000PÇS; Text Field4: PHYCOMP; Text Field6: PHYCOMP; Text Field10: ROHM
footprint 0603_R_V0
footprint 0603_O_V0
footprint 0603_O_V1
pins: 1, 2

## P_S193500016
designator R?  value 1/4W, 5%  OBS: NM  (hidden comment: P_S193500016)
1/4W, 5%; Text Field1: FILM RES., 0805 SIZE, 0R, 5%, 0.125W; Text Field2: 2322 730 92002L @ PAPER TAPE 20000PÇS; Text Field3: PHYCOMP; Text Field4: 2322 730 91003L @ PAPER TAPE 10000PÇS; Text Field6: 2322 730 91002L @ PAPER TAPE 5000PÇS; DES: R002; Text Field5: PHYCOMP; Text Field7: PHYCOMP
footprint 0805_R_V0
footprint 0805_O_V0
footprint 0805_O_VS0
pins: 1, 2

## P_S193500017
designator R115i?  value 620k, 1%, 1/4W  (hidden comment: P_S193500017)
620k, 1%, 1/4W; Text Field1: 2322 724 86204L @ REEL 20000PÇS; Text Field2: PHYCOMP; Text Field3: 2322 724 76204L @ REEL 10000PÇS; Text Field5: 2322 724 66204L @ REEL 5000PÇS; COMPONENT: RES., 1206 SIZE 620k, 1%, 1/4W; EECON CODE: 0193500017; Text Field4: PHYCOMP; Text Field6: PHYCOMP
footprint 1206_R_V0
footprint 1206_O_V0
footprint 1206_R_V1
pins: 1, 2

## P_S193500018
designator R10s?  (value not drawn)
180k, 1%, 1/4W; COMPONENT: RES., 1206 SIZE, 180k, 1%, 1/4W; Text Field1: 2322 724 81804L @ REEL 20000PÇS; Text Field2: PHYCOMP; Text Field3: 2322 724 71804L @ REEL 10000PÇS; Text Field5: 2322 724 61804L @ REEL 5000PÇS; EECON CODE: 0193500018; DES: R10s; Text Field4: PHYCOMP; Text Field6: PHYCOMP; Value: 180k, 1%, 1/4W
footprint 0603_O_V1
pins: 1, 2
text: 180K, 1/10W, 1%

## P_S193500018_1
designator R?, comment value 180k, 1%, 1/4W  (hidden comment: P_S193500018)
180k, 1%, 1/4W; Text Field1: 2322 724 81804L @ REEL 20000PÇS; Text Field2: PHYCOMP; Text Field3: 2322 724 71804L @ REEL 10000PÇS; Text Field5: 2322 724 61804L @ REEL 5000PÇS; COMPONENT: RES., 1206 SIZE, 180k, 1%, 1/4W; EECON CODE: 0193500018; Text Field4: PHYCOMP; Text Field6: PHYCOMP
footprint 1206_R_V0
footprint 1206_O_V0
footprint 1206_R_V1
pins: 1, 2

## P_S193500021
designator R11s?  value 5k1, 1/8W, 5%  (hidden comment: P_S193500021)
5k1, 1/8W, 5%; COMPONENT: RES.,0603 SIZE,5K6, 5%, 1/10W; Text Field1: 2322 702 81562L @ REEL 20000PÇS; Text Field2: PHYCOMP; Text Field3: 2322 702 70562L @ REEL 10000PÇS; Text Field5: 2322 702 60562L @ REEL 5000PÇS; EECON CODE: 0193500021; DES: R11s; Text Field4: PHYCOMP; Text Field6: PHYCOMP
footprint 0603_R_V0
footprint 0603_O_V0
footprint 0805_R_V4
footprint 0805_O_V1
pins: 1, 2
1 alternate drawing of the same symbol

## P_S193500024
designator R5i?  value 6K8, 5%, 1/10W  (hidden comment: P_S193500024)
6K8, 5%, 1/10W; Text Field1: 2322 702 81682L @ REEL 20000PÇS; Text Field2: PHYCOMP; Text Field3: 2322 702 70682L @ REEL 10000PÇS; Text Field5: 2322 702 60682L @ REEL 5000PÇS; COMPONENT: RES., 0603 SIZE, 6K8R, 5%, 1/10W; EECON CODE: 0193500024; Text Field4: PHYCOMP; Text Field6: PHYCOMP
footprint 0603_R_V0
footprint 0603_O_V0
footprint 0603_R_VS0
footprint 0603_O_V1
pins: 1, 2

## P_S193500030
designator R21s?  (value not drawn)
1k, 1%, 1/8W; COMPONENT: RES., 0805 SIZE, 1k, 1%, 1/8W; Text Field1: 2322 734 81002L @ REEL 20000PÇS; Text Field2: PHYCOMP; Text Field3: 2322 734 71002L @ REEL 10000PÇS; Text Field5: 2322 734 61002L @ REEL 5000PÇS; EECON CODE: 0193500030; DES: R21s; Text Field4: PHYCOMP; Text Field6: PHYCOMP; Value: 1k, 1%, 1/8W
footprint 0805_R_V0
footprint 0805_O_V0
footprint 0805_R_V4
footprint 0805_O_V1
pins: 1, 2

## P_S193500035
designator R33s?  (value not drawn)
47k, 1%, 1/8W; COMPONENT: RES., 0805 SIZE, 47k, 1%, 1/8W; Text Field1: 2322 734 84703L @ REEL 20000PÇS; Text Field2: PHYCOMP; Text Field3: 2322 734 74703L @ REEL 10000PÇS; Text Field5: 2322 734 64703L @ REEL 5000PÇS; EECON CODE: 0193500035; DES: R33s; Text Field4: PHYCOMP; Text Field6: PHYCOMP; Value: 47k, 1%, 1/8W
footprint 0805_R_V0
footprint 0805_O_V0
footprint 0603_R_V4
footprint 0603_O_V1
pins: 1, 2
text: 46.4k, 1%, 1/10W

## P_S193500036
designator R3s?  (value not drawn)
100k, 1%, 1/8W; COMPONENT: RES., 0805 SIZE, 100k, 1%,1/8W; Text Field1: 2322 734 81004L @ REEL 20000PÇS; Text Field2: PHYCOMP; Text Field3: 2322 734 71004L @ REEL 10000PÇS; Text Field5: 2322 734 61004L @ REEL 5000 PÇS; DES: R3s; Text Field4: PHYCOMP; Text Field6: PHYCOMP; EECON CODE: 193500036; Value: 100k, 1%, 1/8W
footprint 0805_R_V0
footprint 0805_O_V0
footprint 2010_O_VS0
footprint 1210_R_WHP
footprint 2010_O_VS0
footprint 2010_R_V0
footprint 2010_O_V1
pins: 1, 2
text: 100K,3/4W, 5%

## P_S193500057
designator R20s?  value 10K, 1/10W, 5%  (hidden comment: P_S193500057)
10K, 1/10W, 5%; COMPONENT: RES., 0603 SIZE, 10k, 1/10W, 5%; Text Field1: 2322 702 60103L @ REEL 5000PÇS; Text Field2: PHYCOMP; Text Field3: 2322 702 81103L @ REEL 20000PÇS; EECON CODE: 0193500057; Text Field5: 2322 702 70103L @ REEL 10000PÇS; Text Field7: MCR03EZPJ103 @ PAPER TAPE 5000PÇS; Text Field8: ROHM; Text Field9: MCR03MZPJ103 @ PAPER TAPE 10000PÇS; Text Field11: RC0603JR-0710KL @ Reel 5000PÇS; Text Field12: YAGEO; Text Field13: RC0603JR-1010KL @ Reel 10000PÇS; Text Field15: RC0603JR-1310KL @ Reel 20000PÇS; DES: R20s; Text Field4: PHYCOMP; Text Field6: PHYCOMP; Text Field14: YAGEO; Text Field16: YAGEO; Text Field10: ROHM
footprint 0603_R_V0
footprint 0603_O_V0
footprint 0603_O_V1
pins: 1, 2
1 alternate drawing of the same symbol

## P_S193500057_1
designator R34s?, comment P_S193500057  (value not drawn)
10K, 1/10W, 5%; COMPONENT: RES., 0603 SIZE, 10k, 1/10W, 5%; Text Field1: 2322 702 60103L @ REEL 5000PÇS; Text Field2: PHYCOMP; Text Field3: 2322 702 81103L @ REEL 20000PÇS; Text Field7: MCR03EZPJ103 @ PAPER TAPE 5000PÇS; Text Field8: ROHM; EECON CODE: 0193500057; Text Field5: 2322 702 70103L @ REEL 10000PÇS; Text Field9: MCR03MZPJ103 @ PAPER TAPE 10000PÇS; Text Field11: RC0603JR-0710KL @ Reel 5000PÇS; Text Field12: YAGEO; Text Field13: RC0603JR-1010KL @ Reel 10000PÇS; Text Field15: RC0603JR-1310KL @ Reel 20000PÇS; DES: R34s; Text Field4: PHYCOMP; Text Field6: PHYCOMP; Text Field14: YAGEO; Text Field16: YAGEO; Text Field10: ROHM; Value: 10K, 1/10W, 5%
footprint 0603_R_V0
footprint 0603_O_V0
footprint 0603_R_V4
footprint 0603_O_V1
pins: 1, 2
1 alternate drawing of the same symbol
text: 10K, 1/10, 1%

## P_S193500057_2
designator R23s?, comment value 510K, 1/10W, 5%  (hidden comment: P_S193500057)
510K, 1/10W, 5%; COMPONENT: RES., 0603 SIZE, 10k, 1/10W, 5%; Text Field1: 2322 702 60103L @ REEL 5000PÇS; Text Field2: PHYCOMP; Text Field3: 2322 702 81103L @ REEL 20000PÇS; Text Field7: MCR03EZPJ103 @ PAPER TAPE 5000PÇS; Text Field8: ROHM; EECON CODE: 0193500057; Text Field5: 2322 702 70103L @ REEL 10000PÇS; Text Field9: MCR03MZPJ103 @ PAPER TAPE 10000PÇS; Text Field11: RC0603JR-0710KL @ Reel 5000PÇS; Text Field12: YAGEO; Text Field13: RC0603JR-1010KL @ Reel 10000PÇS; Text Field15: RC0603JR-1310KL @ Reel 20000PÇS; DES: R23s; Text Field4: PHYCOMP; Text Field6: PHYCOMP; Text Field14: YAGEO; Text Field16: YAGEO; Text Field10: ROHM
footprint 0603_R_V0
footprint 0603_O_V1
footprint 0805_R_V4
footprint 0805_O_V1
pins: 1, 2
1 alternate drawing of the same symbol

## P_S193500057_3
designator R36sa?, comment value 1M5, 1/4W, 1%  (hidden comment: P_S193500057)
1M5, 1/4W, 1%; COMPONENT: RES., 0603 SIZE, 10k, 1/10W, 5%; Text Field1: 2322 702 60103L @ REEL 5000PÇS; Text Field2: PHYCOMP; Text Field3: 2322 702 81103L @ REEL 20000PÇS; Text Field7: MCR03EZPJ103 @ PAPER TAPE 5000PÇS; Text Field8: ROHM; EECON CODE: 0193500057; Text Field5: 2322 702 70103L @ REEL 10000PÇS; Text Field9: MCR03MZPJ103 @ PAPER TAPE 10000PÇS; Text Field11: RC0603JR-0710KL @ Reel 5000PÇS; Text Field12: YAGEO; Text Field13: RC0603JR-1010KL @ Reel 10000PÇS; Text Field15: RC0603JR-1310KL @ Reel 20000PÇS; DES: R36sa; Text Field4: PHYCOMP; Text Field6: PHYCOMP; Text Field14: YAGEO; Text Field16: YAGEO; Text Field10: ROHM
footprint 1206_R_V1
footprint 0603_O_V0
footprint 1206_O_V0
footprint 1206_R_V1
pins: 1, 2
1 alternate drawing of the same symbol

## P_S193500057_4
designator R38sa?, comment value 1M2, 1/4W, 1%  OBS: NM  (hidden comment: P_S193500057)
1M2, 1/4W, 1%; COMPONENT: RES., 0603 SIZE, 10k, 1/10W, 5%; Text Field1: 2322 702 60103L @ REEL 5000PÇS; Text Field2: PHYCOMP; Text Field3: 2322 702 81103L @ REEL 20000PÇS; Text Field7: MCR03EZPJ103 @ PAPER TAPE 5000PÇS; Text Field8: ROHM; EECON CODE: 0193500057; Text Field5: 2322 702 70103L @ REEL 10000PÇS; Text Field9: MCR03MZPJ103 @ PAPER TAPE 10000PÇS; Text Field11: RC0603JR-0710KL @ Reel 5000PÇS; Text Field12: YAGEO; Text Field13: RC0603JR-1010KL @ Reel 10000PÇS; Text Field15: RC0603JR-1310KL @ Reel 20000PÇS; DES: R36sa; Text Field4: PHYCOMP; Text Field6: PHYCOMP; Text Field14: YAGEO; Text Field16: YAGEO; Text Field10: ROHM
footprint 1206_R_V1
footprint 0603_O_V0
footprint 1206_O_V0
pins: 1, 2
1 alternate drawing of the same symbol

## P_S193500057_5
designator R?, comment value 1M, 1/10W, 5%  (hidden comment: P_S193500057)
1M, 1/10W, 5%; Text Field1: 2322 702 60103L @ REEL 5000PÇS; Text Field2: PHYCOMP; Text Field3: 2322 702 81103L @ REEL 20000PÇS; Text Field5: 2322 702 70103L @ REEL 10000PÇS; Text Field7: MCR03EZPJ103 @ PAPER TAPE 5000PÇS; COMPONENT: RES., 0603 SIZE, 10k, 1/10W, 5%; EECON CODE: 0193500057; Text Field8: ROHM; Text Field9: MCR03MZPJ103 @ PAPER TAPE 10000PÇS; Text Field11: RC0603JR-0710KL @ Reel 5000PÇS; Text Field12: YAGEO; Text Field13: RC0603JR-1010KL @ Reel 10000PÇS; Text Field15: RC0603JR-1310KL @ Reel 20000PÇS; Text Field4: PHYCOMP; Text Field6: PHYCOMP; Text Field10: ROHM; Text Field14: YAGEO; Text Field16: YAGEO
footprint 0603_R_V0
footprint 0603_O_V0
footprint 0603_O_V1
footprint 0603_R_V3
pins: 1, 2

## P_S193500057_6
designator R?, comment value 10K, 1/10W, 5%  (hidden comment: P_S193500057)
10K, 1/10W, 5%; Text Field1: 2322 702 60103L @ REEL 5000PÇS; Text Field2: PHYCOMP; Text Field3: 2322 702 81103L @ REEL 20000PÇS; Text Field5: 2322 702 70103L @ REEL 10000PÇS; Text Field7: MCR03EZPJ103 @ PAPER TAPE 5000PÇS; COMPONENT: RES., 0603 SIZE, 10k, 1/10W, 5%; EECON CODE: 0193500057; Text Field8: ROHM; Text Field9: MCR03MZPJ103 @ PAPER TAPE 10000PÇS; Text Field11: RC0603JR-0710KL @ Reel 5000PÇS; Text Field12: YAGEO; Text Field13: RC0603JR-1010KL @ Reel 10000PÇS; Text Field15: RC0603JR-1310KL @ Reel 20000PÇS; Text Field4: PHYCOMP; Text Field6: PHYCOMP; Text Field10: ROHM; Text Field14: YAGEO; Text Field16: YAGEO
footprint 0603_R_V0
footprint 0603_O_V0
footprint 0603_O_V1
pins: 1, 2

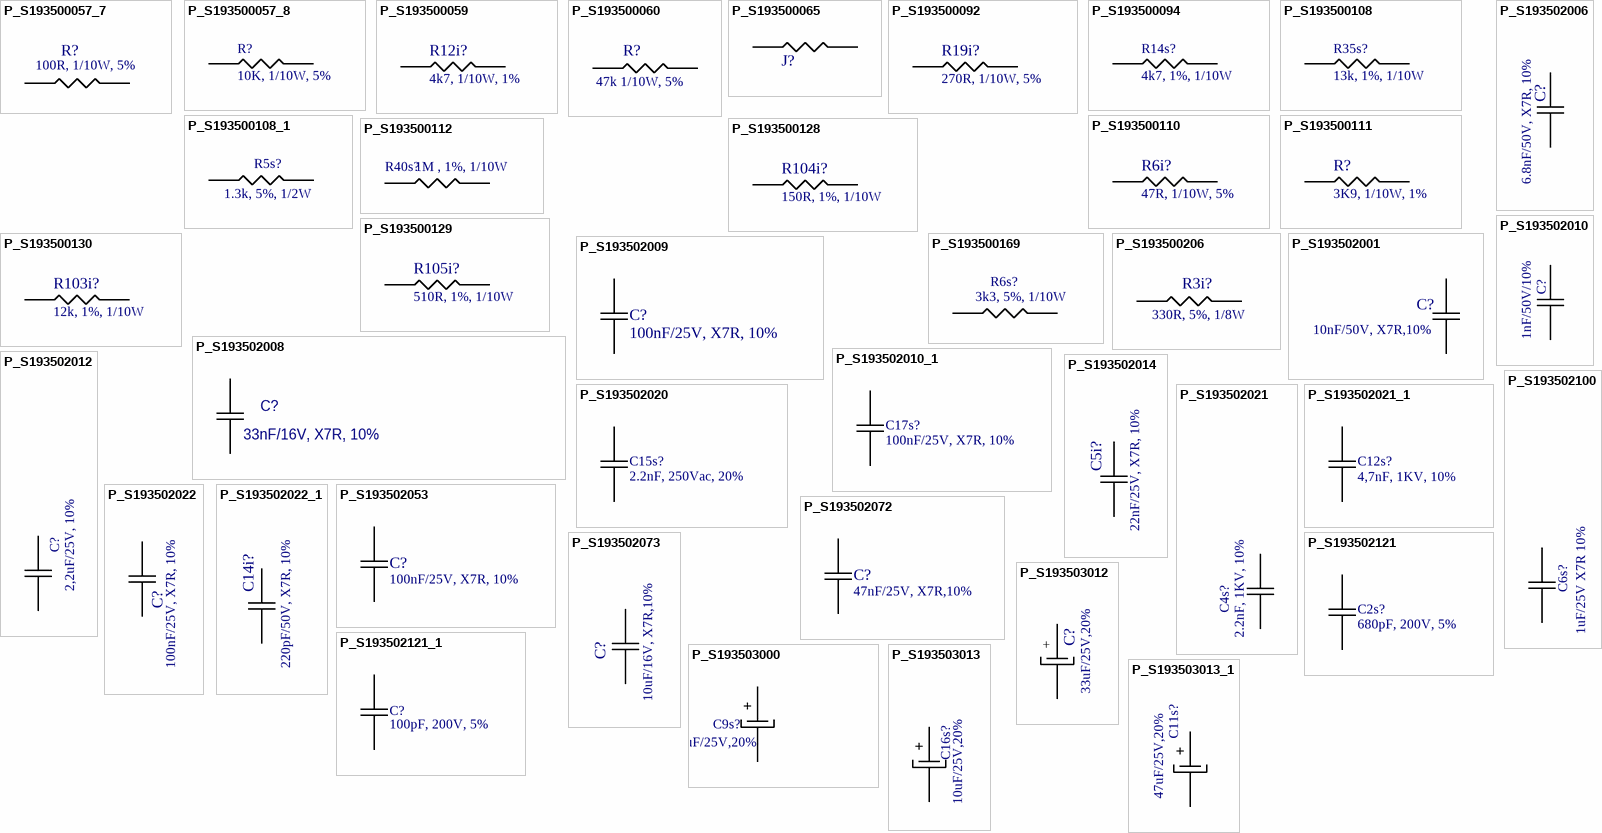
[diagram p2: symbols P_S193500057_7 to P_S193503013_1]

## P_S193500057_7
designator R?, comment value 100R, 1/10W, 5%  (hidden comment: P_S193500057)
100R, 1/10W, 5%; Text Field1: 2322 702 60103L @ REEL 5000PÇS; Text Field2: PHYCOMP; Text Field3: 2322 702 81103L @ REEL 20000PÇS; Text Field5: 2322 702 70103L @ REEL 10000PÇS; Text Field7: MCR03EZPJ103 @ PAPER TAPE 5000PÇS; COMPONENT: RES., 0603 SIZE, 10k, 1/10W, 5%; EECON CODE: 0193500057; Text Field8: ROHM; Text Field9: MCR03MZPJ103 @ PAPER TAPE 10000PÇS; Text Field11: RC0603JR-0710KL @ Reel 5000PÇS; Text Field12: YAGEO; Text Field13: RC0603JR-1010KL @ Reel 10000PÇS; Text Field15: RC0603JR-1310KL @ Reel 20000PÇS; Text Field4: PHYCOMP; Text Field6: PHYCOMP; Text Field10: ROHM; Text Field14: YAGEO; Text Field16: YAGEO
footprint 0603_R_V0
footprint 0603_O_V0
footprint 0603_R_V3
pins: 1, 2

## P_S193500057_8
designator R?, comment value 10K, 1/10W, 5%  (hidden comment: P_S193500057)
10K, 1/10W, 5%; Text Field1: 2322 702 60103L @ REEL 5000PÇS; Text Field2: PHYCOMP; Text Field3: 2322 702 81103L @ REEL 20000PÇS; Text Field5: 2322 702 70103L @ REEL 10000PÇS; COMPONENT: RES., 0603 SIZE, 10k, 1/10W, 5%; EECON CODE: 0193500057; Text Field7: MCR03EZPJ103 @ PAPER TAPE 5000PÇS; Text Field8: ROHM; Text Field9: MCR03MZPJ103 @ PAPER TAPE 10000PÇS; Text Field11: RC0603JR-0710KL @ Reel 5000PÇS; Text Field12: YAGEO; Text Field13: RC0603JR-1010KL @ Reel 10000PÇS; Text Field15: RC0603JR-1310KL @ Reel 20000PÇS; Text Field4: PHYCOMP; Text Field6: PHYCOMP; Text Field14: YAGEO; Text Field16: YAGEO; Text Field10: ROHM
footprint 0603_R_V0
footprint 0603_O_V0
footprint 0402_R_V0
footprint 0603_O_V1
footprint 0603_R_V3
pins: 1, 2
1 alternate drawing of the same symbol

## P_S193500059
designator R12i?  value 4k7, 1/10W, 1%  (hidden comment: P_S193500059)
4k7, 1/10W, 1%; Text Field1: 2322 702 60222L @ REEL 5000PÇS; Text Field2: PHYCOMP; Text Field3: 2322 702 70222L @ REEL 10000PÇS; Text Field5: 2322 702 81222L @ REEL 20000PÇS; Text Field7: ROHM; COMPONENT: RES., 0603 SIZE,2k2R, 1/10W, 5%; EECON CODE: 0193500059; Text Field8: MCR03 EZP J 222 @ PAPER TAPE 5000PÇS; Text Field4: PHYCOMP; Text Field6: PHYCOMP; Text Field9: ROHM
footprint 0603_R_V0
footprint 0603_O_V0
footprint 0603_O_V1
pins: 1, 2

## P_S193500060
designator R?  value 47k 1/10W, 5%  (hidden comment: P_S193500060)
47k 1/10W, 5%; Text Field1: 2322 702 60473L @ TAPE REEL 5000PÇS; Text Field2: PHYCOMP; Text Field5: 2322 702 81473L @ TAPE REEL 20000PÇS; Text Field7: MCR03 EZH J 473 @ PAPER TAPE 5000PÇS; OBS: NM; COMPONENT: Res 0603 SIZE, 47k, 1/10W, 5%; EECON CODE: 0193500060; TextField3: 2322 702 70473L @ TAPE REEL 10000PÇS; Text Field8: ROHM; Text Field9: MCR03 EZP J 473 @ PAPER TAPE 5000PÇS; Text Field4: PHYCOMP; Text Field6: PHYCOMP; Text Field10: ROHM
footprint 0603_R_V0
footprint 0603_O_V0
footprint 0603_O_V1
footprint 0603_R_V3
pins: 1, 2

## P_S193500065
designator J?  (value not drawn)
0R, 1/10W, 5%; Text Field1: 2322 702 96001L @ PAPER TAPE 5000PÇS; Text Field2: PHYCOMP; Text Field3: 2322 702 97001L @ PAPER TAPE 10000PÇS; Text Field5: 2322 702 92002L @ PAPER TAPE 20000PÇS; COMPONENT: RES., 0603 SIZE, 0R, 1/10W, 5%; EECON CODE: 0193500065; Text Field9: 0603WAJ000TAE @ TAPE RELL 500PÇS; Text Field10: ROYAL OHM; Text Field11: 0603WAJ000T9E @ TAPE RELL 9000PÇS; Text Field14: 0603WAJ000TCE @ TAPE RELL 10000PÇS; Text Field16: 0603WAJ000TDE @ TAPE RELL 20000PÇS; Text Field18: 0603WAJ000T1E @ TAPE RELL1000PÇS; Text Field20: 0603WAJ000T2E @ TAPE RELL 2000PÇS; Text Field22: 0603WAJ000T3E @ TAPE RELL 3000PÇS; Text Field24: 0603WAJ000T4E @ TAPE RELL 4000PÇS; Text Field26: 0603WAJ000T5E @ TAPE RELL 5000PÇS; Text Field4: PHYCOMP; Text Field6: PHYCOMP; Text Field13: ROYAL OHM; Text Field15: ROYAL OHM; Text Field17: ROYAL OHM; Text Field19: ROYAL OHM; TextField21: ROYAL OHM; Text Field23: ROYAL OHM; Text Field25: ROYAL OHM; Text Field27: ROYAL OHM; Value: 0R, 1/10W, 5%
footprint 0603_R_V0
footprint 0603_O_V0
footprint 0603_O_V1
pins: 1, 2

## P_S193500092
designator R19i?  value 270R, 1/10W, 5%  (hidden comment: P_S193500092)
270R, 1/10W, 5%; Text Field1: 2322 702 60271L @ REEL  5000PÇS; Text Field2: PHYCOMP; Text Field3: 2322 702 70271L @ REEL  10000PÇS; Text Field5: MCR03 EZH J 271 @ PAPER TAPE 5000PÇS; Text Field6: ROHM; Text Field7: 2322 702 81271L @ REEL 20000PÇS; COMPONENT: RES., 0603 SIZE, 270R, 5%, 1/10W; EECON CODE: 0193500092; Text Field9: MCR03 EZP J 271 @ PAPER TAPE 5000PÇS; Text Field4: PHYCOMP; Text Field8: PHYCOMP; Text Field10: ROHM
footprint 0603_R_V0
footprint 0603_O_V0
footprint 0603_O_V1
pins: 1, 2

## P_S193500094
designator R14s?  value 4k7, 1%, 1/10W  (hidden comment: P_S193500094)
4k7, 1%, 1/10W; COMPONENT: RES., 0805 SIZE, 4k7, 1%, 1/8W; Text Field1: 2322 734 64702L @ REEL 5000PÇS; Text Field2: PHYCOMP; Text Field3: 2322 734 74702L @ REEL 10000PÇS; Text Field5: 2322 734 84702L @ REEL 20000PÇS; EECON CODE: 0193500094; DES: R14s; Text Field4: PHYCOMP; Text Field6: PHYCOMP
footprint 0805_R_V0
footprint 0805_O_V0
footprint 0805_R_V4
footprint 0805_O_V1
footprint 0603_O_V1
pins: 1, 2

## P_S193500108
designator R35s?  value 13k, 1%, 1/10W  (hidden comment: P_S193500108)
13k, 1%, 1/10W; COMPONENT: RES.,0603 SIZE , 13k,1%, 1/10W; Text Field1: 2322 704 61303 @PKG T&R 5000PÇS; Text Field2: PHYCOMP; Text Field3: 2322 704 71303 @PKG T&R 10000PÇS; EECON CODE: 0193500108; DES: R35s; Text Field4: PHYCOMP
footprint 0603_R_V0
footprint 0603_O_V0
footprint 0603_R_V4
footprint 0603_O_V1
pins: 1, 2

## P_S193500108_1
designator R5s?, comment P_S193500108  (value not drawn)
13k, 1%, 1/10W; COMPONENT: RES.,0603 SIZE , 13k,1%, 1/10W; Text Field1: 2322 704 61303 @PKG T&R 5000PÇS; Text Field2: PHYCOMP; Text Field3: 2322 704 71303 @PKG T&R 10000PÇS; EECON CODE: 0193500108; DES: R5s; Text Field4: PHYCOMP; Value: 13k, 1%, 1/10W
footprint 0603_R_V0
footprint 0603_O_V0
footprint 1206_R_V2
footprint 1210_R_V1
footprint 1206_O_V0
pins: 1, 2
text: 1.3k, 5%, 1/2W

## P_S193500110
designator R6i?  value 47R, 1/10W, 5%  (hidden comment: P_S193500110)
47R, 1/10W, 5%; Text Field1: 2322 702 60479 @PKG T&R 7" 5000PÇS; Text Field2: PHYCOMP; Text Field3: 2322 702 70479 @PKG T&R 13" 10000PÇS; COMPONENT: RES., 0603 SIZE, 47R, 1%,1/10W; EECON CODE: 0193500110; Text Field4: PHYCOMP
footprint 0603_R_V0
footprint 0603_O_V0
footprint 0603_R_V3
pins: 1, 2

## P_S193500111
designator R?  value 3K9, 1/10W, 1%  (hidden comment: P_S193500111)
3K9, 1/10W, 1%; Text Field1: 2322 704 83902L @ REEL 20000PÇS; Text Field2: PHYCOMP; Text Field3: 2322 704 63902L @ REEL 5000PÇS; COMPONENT: RES, 0603 SIZE 3k9,  1% 1/10W; EECON CODE: 0193500111; Text Field5: 2322 704 73902L @ REEL 10000PÇS; Text Field4: PHYCOMP; Text Field6: PHYCOMP
footprint 0603_R_V0
footprint 0603_O_V0
footprint 0603_O_V1
pins: 1, 2

## P_S193500112
designator R40s?  value 1M , 1%, 1/10W  (hidden comment: P_S193500112)
1M , 1%, 1/10W; COMPONENT: RES, 0603 SIZE, 1M, 1%, 1/10W; Text Field5: 2322 704 81005L@ REEL 20000PÇS; Text Field2: PHYCOMP; EECON CODE: 0193500112; Text Field1: 2322 704 61005L@ REEL 5000PÇS; Text Field3: 2322 704 71005L@ REEL 10000PÇS; DES: R40s; Text Field6: PHYCOMP; Text Field4: PHYCOMP
footprint 0603_R_V0
footprint 0603_O_V0
footprint 0805_R_V4
footprint 0805_O_V1
footprint 0603_O_V1
pins: 1, 2

## P_S193500128
designator R104i?  Vaule: 150R, 1%, 1/10W  (hidden comment: P_S193500128)
RES.,150R,1/10W,1%; Text Field1: 2322 704 81501L @ REEL 20000PÇS; Text Field2: PHYCOMP; Text Field3: 2322 704  71501L @ REEL 10000PÇS; Text Field5: 2322 704  61501L @ REEL 5000PÇS; COMPONENT: RES., 0603 SIZE, 150R, 1%, 1/10W; EECON CODE: 0193500128; Text Field4: PHYCOMP; Text Field6: PHYCOMP
footprint 0603_R_V0
footprint 0603_O_V0
footprint 0603_O_V1
pins: 1, 2

## P_S193500129
designator R105i?  value 510R, 1%, 1/10W  (hidden comment: P_S193500129)
510R, 1%, 1/10W; Text Field1: 2322 704  85101L @ REEL 20000PÇS; Text Field2: PHYCOMP; Text Field3: 2322 704  75101L @ REEL 10000PÇS; Text Field5: 2322 704  65101L @ REEL 5000PÇS; COMPONENT: RES., 0603 SIZE, 510R, 1%, 1/10W; EECON CODE: 0193500129; Text Field4: PHYCOMP; Text Field6: PHYCOMP
footprint 0603_R_V0
footprint 0603_O_V0
footprint 0603_O_V1
footprint 0603_R_V3
pins: 1, 2

## P_S193500130
designator R103i?  value 12k, 1%, 1/10W  (hidden comment: P_S193500130)
12k, 1%, 1/10W; Text Field1: 2322 704 61203L @ REEL 5000PÇS; Text Field2: PHYCOMP; COMPOENENT: RES., 0603 SIZE, 1k, 1%, 1/10W; EECON CODE: 0193500130
footprint 0603_R_V0
footprint 0603_O_V0
footprint 0603_O_V1
pins: 1, 2

## P_S193500169
designator R6s?  value 3k3, 5%, 1/10W  (hidden comment: P_S193500169)
3k3, 5%, 1/10W; COMPONENT: RES.,0603 SIZE, 3k3, 5%, 1/10W; Text Field1: RC0603FR-073K32L 7"@REEL 5000PÇS; Text Field2: YAGEO; EECON CODE: 0193500169; DES: R6s
footprint 0603_R_V0
footprint 0603_O_V1
footprint 0805_R_V4
footprint 0805_O_V1
pins: 1, 2

## P_S193500206
designator R3i?  value 330R, 5%, 1/8W  (hidden comment: P_S193500206)
330R, 5%, 1/8W; COMPONENT: RES., 0805 SIZE, 330R, 5%, 1/8W; Text Field1: 2322 730 61331L; Text Field2: PHYCOMP; Text Field3: RC0805JR-07330RL; Text Field4: YAGEO; EECON CODE: 0193500206
footprint 0603_R_V0
footprint 0603_O_V0
footprint 0805_R_V0
footprint 0805_R_V3
footprint 0805_O_V1
pins: 1, 2

## P_S193502001
designator C?  value 10nF/50V, X7R,10%  (hidden comment: P_S193502001)
10nF/50V, X7R,10%; Text Field1: 2238 910 55636 @ 330mm REEL 15000PÇS; Text Field2: PHYCOMP; Text Field3: 223858015636 @ 180mm REEL 4000PÇS; Text Field5: B37941K5103K60 @ REEL 3000PÇS; Text Field6: EPCOS; COMPONENT: CAP., 0805 SIZE,10nF/50V, X7R, 10%; EECON CODE: 0193502001; Text Field9: B37941K5103K70 @ REEL 12000PÇS; Text Field11: C0805C103K5RAC7533 @ REEL 4000PÇS; Text Field12: KEMET; Text Field4: PHYCOMP; Text Field10: EPCOS
footprint 0805_R_V0
footprint 0805_O_V0
footprint 0805_R_V3
footprint 0805_O_V1
pins: 1, 2

## P_S193502006
designator C?  value 6.8nF/50V, X7R, 10%  (hidden comment: P_S193502006)
6.8nF/50V, X7R, 10%; Text Field1: 2238 586 55634 @ Reel 180mm (7") 4000PÇS; Text Field2: PHYCOMP; Text Field3: 2238 586 15634 @ Reel 330mm (13") 15000PÇS; Text Field5: C0603C682K5RAC7533 @ REEL 4000PÇS; COMPONENT: CAP., 0603 SIZE, 6.8nF/50V, X7R, 10%; EECON CODE: 0193502006; Text Field6: KEMET; Text Field4: PHYCOMP
footprint 0603_R_V0
footprint 0603_O_V1
pins: 1, 2

## P_S193502008
designator C?  value 33nF/16V, X7R, 10%  (hidden comment: P_S193502008)
33nF/16V, X7R, 10%; COMPONENT: CAP., 0603 SIZE, 33nF/16V, X7R, 10%; Text Field1: 2238 786 15643 @ Reel 180mm (7") 4000PÇS; Text Field2: PHYCOMP; Text Field3: 2238 786 55643@ Reel 330mm (13") 15000PÇS; EECON CODE: 0193502008; Text Field5: C0603C333K4RAC7533 @ REEL 4000PÇS; Text Field6: KEMET; Text Field4: PHYCOMP
footprint 0603_R_V0
footprint 0603_O_V0
footprint 0603_O_V1
pins: 1, 2

## P_S193502009
designator C?  value 100nF/25V, X7R, 10%  (hidden comment: P_S193502009)
100nF/25V, X7R, 10%; Text Field1: 2238 786 55649 @  Reel 180mm (7") 4000PÇS; Text Field2: PHYCOMP; Text Field3: 2238 786 15649 @ PReel 330mm (13") 15000PÇS; COMPONENT: CAP., 0603 SIZE, 100nF/16V, X7R, 10%; EECON CODE: 0193502009; Text Field4: PHYCOMP
footprint 0603_R_V0
footprint 0603_O_V0
footprint 0603_O_V1
pins: 1, 2

## P_S193502010
designator C?  value 1nF/50V/10%  (hidden comment: P_S193502010)
1nF/50V/10%; COMPONENT: CAP., 0603 SIZE, 100nF/25V, X7R, 10%; Text Field1: 2238 916 15649 @  Reel 180mm (7") 4000PÇS; Text Field2: PHYCOMP; Text Field3: 2238 916 55649 @  Reel 330mm (13") 15000PÇS; Text Field5: VJ0603Y104KXXAC @ 7" Reel 4000PÇS; Text Field6: VISHAY; EECON CODE: 0193502010; Text Field7: VJ0603Y104KXXAT @ 7" Reel 4000PÇS; Text Field9: C0603C104K5RAC3946 @ Reel 4000 PÇS; Text Field10: KEMET; Text Field11: C0603KRX7R8BB104 @ Reel 180mm (7") 4000PÇS; Text Field12: YAGEO; Text Field13: C0603KPX7R8BB104 @ Reel 330mm (13") 15000PÇS; DES: C19s; Text Field4: PHYCOMP; Text Field8: VISHAY; Text Field14: YAGEO
footprint 0603_R_V0
footprint 0603_O_V0
footprint 0603_O_V1
pins: 1, 2